# Altium footprint library KeyboardSwitches.PcbLib: 43 footprints (part 2 of 3)
Each footprint in its own frame and in the unit in brackets; x right, y up, seen from the top. Pads: shape width x height; smd on the part's side, far side on the other; paste and mask are expansions set on the pad; w line width, h text height; cw(c..) or ccw(c..) is an arc to the next point about the centre after c.
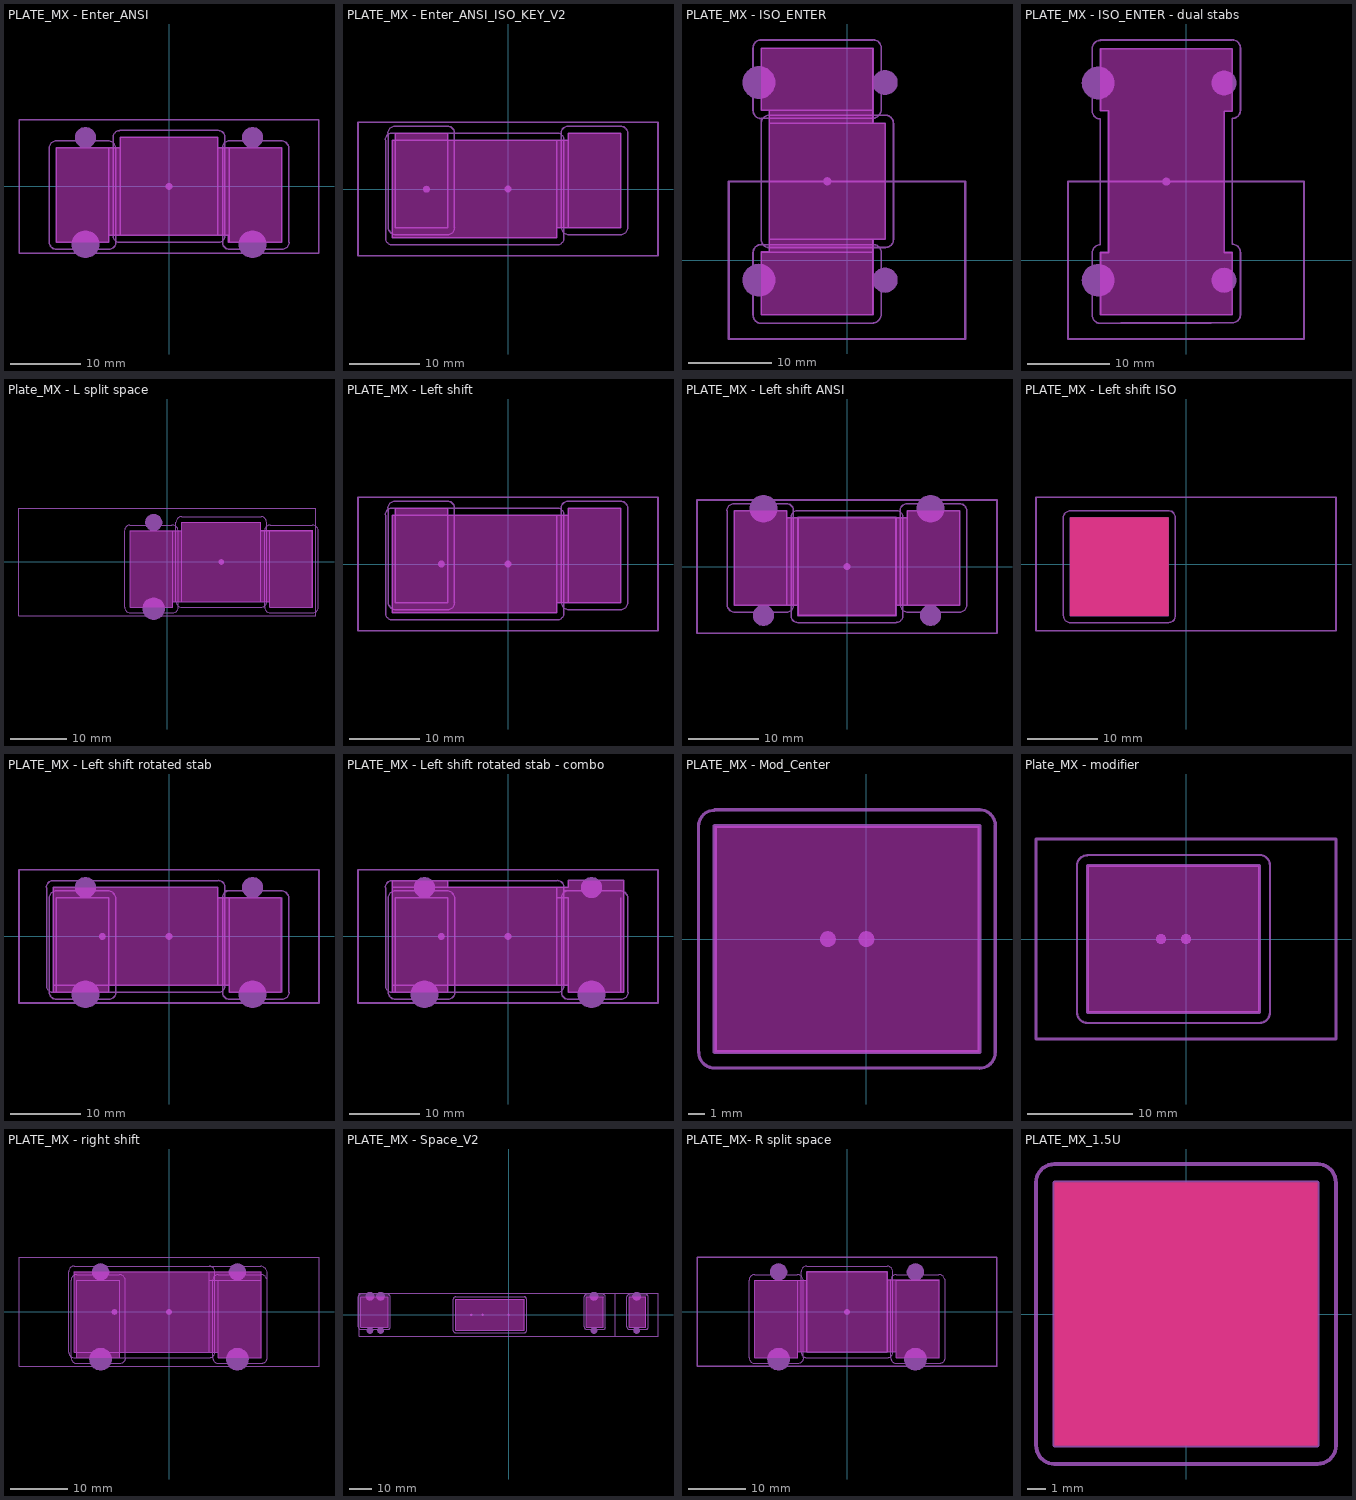
[diagram p1: the footprints below, top view; thin cyan lines are the x and y axes]

## PLATE_MX - Enter_ANSI [mil]
pads (7):
  round 157.01 on Mech13: ""(-470,-325) ""(470,-325)
  round 120 on Mech13: ""(-470,275) ""(470,275)
  round 39.37 on Mech13: ""(0,0) ""(0,0) ""(0,0)
Top Solder:
  drawing of 3 lines, arcs and shapes, not listed
Bottom Solder:
  drawing of 3 lines, arcs and shapes, not listed
Keep-Out Layer:
  board cut-out: -633.86,-313.78 -633.86,217.71 -275.59,217.72 -275.59,275.59 275.59,275.59 275.59,217.71 633.86,217.71 633.86,-313.77 333.68,-313.77 333.69,-275.58 -337.64,-275.58 -337.64,-313.78
Mechanical 13:
  lines w7.87: -673.23,218.26 cw(c-634.87,218.26) -634.87,256.61 -343.13,256.61 cw(c-343.13,212.85) -299.37,212.85 -299.37,-313.22 ; -672.76,217.79 -672.76,-314.8 ccw(c-634.4,-314.8) -634.4,-353.15 -337.09,-353.15 ; -337.05,-275.59 -275.59,-275.59 ; -336.62,-352.68 ccw(c-336.62,-314.32) -298.27,-314.32 ; -314.96,-276.13 -314.96,276.13 cw(c-276.61,276.13) -276.61,314.49 ; -314.49,-276.61 ccw(c-276.13,-276.61) -276.13,-314.96 276.13,-314.96 ; -277.72,217.72 -337.64,217.72 ; -276.13,314.96 276.13,314.96 cw(c276.13,276.61) 314.49,276.61 ; 276.61,-314.49 ccw(c276.61,-276.13) 314.96,-276.13 314.96,276.13 ; 277.87,217.72 337.64,217.72 ; 300.63,218.26 cw(c338.98,218.26) 338.98,256.61 630.72,256.61 cw(c630.72,212.85) 674.49,212.85 674.49,-313.22 ; 301.1,217.79 301.1,-314.8 ccw(c339.46,-314.8) 339.46,-353.15 636.76,-353.15 ; 332.05,-275.59 275.59,-275.59 ; 637.24,-352.68 ccw(c637.24,-314.32) 675.59,-314.32 ; -337.64,217.72 -337.64,-313.78 -633.86,-313.78 -633.86,217.72 -337.64,217.72 ; -275.59,-275.59 275.59,-275.59 ; -275.59,-275.59 -275.59,275.59 275.59,275.59 275.59,-275.59 ; 337.64,217.72 633.86,217.72 633.86,-313.78 337.64,-313.78 337.64,217.72 ; -843.75,-375 843.75,-375 843.75,375 -843.75,375 -843.75,-375
Mechanical 15:
  lines w7.87: -275.59,217.71 -633.86,217.71 -633.86,-313.77 -633.86,-313.78 -338.78,-313.78 -337.64,-312.64 -337.64,-275.58 333.69,-275.58 333.69,-313.77 ; -275.59,217.71 -275.59,217.72 ; -275.59,217.72 -275.59,275.59 ; -275.59,275.59 -275.59,275.59 ; -275.59,275.59 275.59,275.59 ; 275.59,275.59 275.59,275.59 ; 275.59,275.59 275.59,217.72 633.86,217.71 ; 333.68,-313.77 633.85,-313.77 ; 333.68,-313.77 333.69,-313.77 ; 633.86,-313.77 633.86,217.71 ; 633.85,-313.77 633.86,-313.77 ; 633.86,217.71 633.86,217.71

## PLATE_MX - Enter_ANSI_ISO_KEY_V2 [mm]
pads (4):
  round 1 on Mech13: ""(-11.652,-0.032) ""(-11.652,-0.032) ""(0,0) ""(0,0)
Top Solder:
  drawing of 3 lines, arcs and shapes, not listed
Bottom Solder:
  drawing of 3 lines, arcs and shapes, not listed
Keep-Out Layer:
  board cut-out: 16.1,7.97 16.1,-5.53 7,-5.53 7,-7 -16.525,-7 -16.525,7 -16.1,7 -16.1,7.97 -8.576,7.97 -8.576,7 6.614,7 8.576,7 8.576,7.97
Mechanical 13:
  lines w0.2: -17.525,7.014 cw(c-16.551,7.014) -16.551,7.988 7.002,7.988 ; -17.498,6.987 -17.498,-7.026 ccw(c-16.524,-7.026) -16.524,-8 ; -17.16,7.984 cw(c-16.186,7.984) -16.186,8.958 ; -17.132,7.956 -17.132,-5.406 ccw(c-16.02,-5.406) -16.02,-6.518 -8.61,-6.518 ccw(c-8.61,-5.544) -7.636,-5.544 ; -16.512,-7.988 7.026,-7.988 ccw(c7.026,-7.014) 8,-7.014 ; -16.174,8.97 -8.622,8.97 cw(c-8.622,7.996) -7.648,7.996 -7.648,-5.532 ; 7,6.985 8.576,6.985 ; 7.014,8 cw(c7.014,7.026) 7.988,7.026 7.988,-7.002 ; 7.058,-5.53 8.576,-5.53 ; 7.576,7.984 cw(c8.55,7.984) 8.55,8.958 ; 7.604,7.956 7.604,-5.406 ccw(c8.716,-5.406) 8.716,-6.518 16.126,-6.518 ccw(c16.126,-5.544) 17.1,-5.544 ; 8.562,8.97 16.114,8.97 cw(c16.114,7.996) 17.088,7.996 17.088,-5.532 ; -16.1,7.97 -8.576,7.97 ; -16.1,7.97 -16.1,-5.53 -8.576,-5.53 -8.576,7.97 ; -16.1,7.97 -8.576,7.97 ; 8.576,-5.53 16.1,-5.53 16.1,7.97 8.576,7.97 8.576,-5.53 ; -16.525,-7 7,-7 7,7 -16.525,7 -16.525,-7
  lines w0.254: -21.431,-9.525 21.431,-9.525 21.431,9.525 -21.431,9.525 -21.431,-9.525
  text ".Designator" at 7.85,1.8 h0.7
Mechanical 15:
  lines w0.2: -16.525,7 -16.525,-7 7,-7 7,-5.53 16.1,-5.53 16.1,7.97 8.576,7.97 8.576,7 -8.576,7 -8.576,7.97 ; -16.525,7 -16.525,7 ; -16.525,7 -16.1,7 ; -16.1,7 -16.1,7 ; -16.1,7 -16.1,7.97 -8.576,7.97 ; -8.576,7.97 -8.576,7.97

## PLATE_MX - ISO_ENTER [mil]
pads (5):
  round 157.01 on Mech13: ""(-418.75,-95) ""(-418.75,845)
  round 39.37 on Mech13: ""(-93.75,375)
  round 120 on Mech13: ""(181.25,-95) ""(181.25,845)
Top Solder:
  drawing of 3 lines, arcs and shapes, not listed
Bottom Solder:
  drawing of 3 lines, arcs and shapes, not listed
Keep-Out Layer:
  board cut-out: -407.53,1008.86 123.97,1008.86 123.97,650.99 181.84,650.99 181.84,99.41 123.97,99.41 123.97,-258.86 -407.53,-258.86 -407.53,39 -369.34,39 -369.34,712.64 -407.52,712.64
Mechanical 13:
  lines w7.87: -446.9,-261.76 -446.9,35.54 cw(c-408.55,35.54) -408.55,73.9 124.04,73.9 ; -446.9,712.09 -446.9,1009.4 cw(c-408.55,1009.4) -408.55,1047.76 124.04,1047.76 ; -446.43,-262.24 ccw(c-408.07,-262.24) -408.07,-300.59 ; -446.43,711.62 ccw(c-408.07,711.62) -408.07,673.27 ; -408.71,98.87 -408.71,651.13 cw(c-370.36,651.13) -370.36,689.49 ; -408.24,98.39 ccw(c-369.88,98.39) -369.88,60.04 182.38,60.04 ; -406.97,-299.49 119.1,-299.49 ccw(c119.1,-255.72) 162.86,-255.72 162.86,36.02 ccw(c124.51,36.02) 124.51,74.37 ; -406.97,674.37 119.1,674.37 ccw(c119.1,718.13) 162.86,718.13 162.86,1009.87 ccw(c124.51,1009.87) 124.51,1048.23 ; -369.88,689.96 182.38,689.96 cw(c182.38,651.61) 220.74,651.61 ; -369.34,42.95 -369.34,99.41 ; -369.34,712.05 -369.34,650.59 ; 123.97,97.13 123.97,37.36 ; 123.97,652.72 123.97,712.64 ; 182.86,60.51 ccw(c182.86,98.87) 221.21,98.87 221.21,651.13 ; -369.34,99.41 -369.34,650.59 ; -369.34,99.41 181.84,99.41 181.84,650.59 -369.34,650.59 ; 123.97,37.36 123.97,-258.86 -407.53,-258.86 -407.53,37.36 123.97,37.36 ; 123.97,712.64 -407.53,712.64 -407.53,1008.86 123.97,1008.86 123.97,712.64
  lines w10: -562.5,-375 562.5,-375 562.5,375 -562.5,375 -562.5,-375
  text ".Designator" at -36.91,882.87 h27.56
Mechanical 15:
  lines w7.87: -407.52,712.64 -407.52,1008.85 -407.53,1008.86 123.97,1008.86 123.97,651 ; -407.52,712.64 -407.52,712.64 ; -407.52,712.64 -369.34,712.64 ; -369.34,39 -369.34,712.64 ; -369.34,39 -369.34,39 ; -369.34,39 -407.53,39 -407.53,-258.86 123.97,-258.86 123.97,99.41 ; -369.34,712.64 -369.34,712.64 ; 123.97,99.41 123.97,99.41 ; 123.97,99.41 181.84,99.41 181.84,650.99 123.97,650.99 ; 123.97,650.99 123.97,651

## PLATE_MX - ISO_ENTER - dual stabs [mil]
pads (5):
  round 157.01 on Mech13: ""(-418.75,-95) ""(-418.75,845)
  round 39.37 on Mech13: ""(-93.75,375)
  round 120 on Mech13: ""(181.25,-95) ""(181.25,845)
Top Solder:
  region: -450.35,-263.68 -450.48,-263.46 -450.66,-263 -450.79,-262.51 -450.85,-262.01 -450.85,-261.76 -450.85,35.54 -450.85,39.46 -449.41,47.16 -446.58,54.47 -442.46,61.13 -437.19,66.92 -430.94,71.65 -423.93,75.15 -416.4,77.3 -412.5,77.67 -412.5,97.73 -412.54,97.87 -412.6,98.15 -412.64,98.44 -412.66,98.72 -412.66,98.87 -412.66,669.57 -416.43,669.98 -423.69,672.12 -430.45,675.52 -436.51,680.07 -441.66,685.62 -445.74,691.99 -448.63,698.99 -450.23,706.39 -450.35,710.18 -450.48,710.4 -450.66,710.86 -450.79,711.35 -450.85,711.84 -450.85,712.09 -450.85,1009.4 -450.85,1013.36 -449.39,1021.13 -446.5,1028.5 -442.31,1035.2 -436.94,1041.01 -430.59,1045.73 -423.48,1049.18 -415.84,1051.26 -411.9,1051.58 -411.63,1052 -410.9,1052.7 -410.02,1053.19 -409.05,1053.44 -408.55,1053.44 217.83,1053.44 218.11,1053.7 218.74,1054.11 219.45,1054.4 220.19,1054.54 220.57,1054.54 224.65,1054.54 232.65,1052.99 240.21,1049.93 247.04,1045.49 252.9,1039.83 257.58,1033.15 260.89,1025.7 262.72,1017.76 262.85,1013.68 262.98,1013.46 263.16,1013 263.29,1012.51 263.35,1012.01 263.35,1011.76 263.35,714.46 263.35,710.55 261.92,702.87 259.11,695.58 255.01,688.93 249.76,683.14 243.54,678.41 236.56,674.9 229.05,672.73 225.16,672.35 225.16,80.43 228.93,80.02 236.19,77.88 242.95,74.48 249.01,69.93 254.16,64.38 258.24,58.01 261.13,51.01 262.73,43.61 262.85,39.82 262.98,39.6 263.16,39.14 263.29,38.65 263.35,38.16 263.35,37.91 263.35,-259.4 263.35,-263.57 261.73,-271.74 258.54,-279.44 253.91,-286.37 248.01,-292.26 241.08,-296.89 233.39,-300.08 225.21,-301.71 221.05,-301.71 122.37,-301.71 122.1,-302.11 121.38,-302.75 120.52,-303.21 119.58,-303.44 119.1,-303.44 -405.33,-303.44 -405.61,-303.7 -406.24,-304.11 -406.95,-304.4 -407.69,-304.54 -408.07,-304.54 -412.15,-304.54 -420.15,-302.99 -427.71,-299.93 -434.54,-295.49 -440.4,-289.83 -445.08,-283.15 -448.39,-275.7 -450.22,-267.76
Bottom Solder:
  region: -450.35,-263.68 -450.48,-263.46 -450.66,-263 -450.79,-262.51 -450.85,-262.01 -450.85,-261.76 -450.85,35.54 -450.85,39.46 -449.41,47.16 -446.58,54.47 -442.46,61.13 -437.19,66.92 -430.94,71.65 -423.93,75.15 -416.4,77.3 -412.5,77.67 -412.5,97.73 -412.54,97.87 -412.6,98.15 -412.64,98.44 -412.66,98.72 -412.66,98.87 -412.66,669.57 -416.43,669.98 -423.69,672.12 -430.45,675.52 -436.51,680.07 -441.66,685.62 -445.74,691.99 -448.63,698.99 -450.23,706.39 -450.35,710.18 -450.48,710.4 -450.66,710.86 -450.79,711.35 -450.85,711.84 -450.85,712.09 -450.85,1009.4 -450.85,1013.36 -449.39,1021.13 -446.5,1028.5 -442.31,1035.2 -436.94,1041.01 -430.59,1045.73 -423.48,1049.18 -415.84,1051.26 -411.9,1051.58 -411.63,1052 -410.9,1052.7 -410.02,1053.19 -409.05,1053.44 -408.55,1053.44 217.83,1053.44 218.11,1053.7 218.74,1054.11 219.45,1054.4 220.19,1054.54 220.57,1054.54 224.65,1054.54 232.65,1052.99 240.21,1049.93 247.04,1045.49 252.9,1039.83 257.58,1033.15 260.89,1025.7 262.72,1017.76 262.85,1013.68 262.98,1013.46 263.16,1013 263.29,1012.51 263.35,1012.01 263.35,1011.76 263.35,714.46 263.35,710.55 261.92,702.87 259.11,695.58 255.01,688.93 249.76,683.14 243.54,678.41 236.56,674.9 229.05,672.73 225.16,672.35 225.16,80.43 228.93,80.02 236.19,77.88 242.95,74.48 249.01,69.93 254.16,64.38 258.24,58.01 261.13,51.01 262.73,43.61 262.85,39.82 262.98,39.6 263.16,39.14 263.29,38.65 263.35,38.16 263.35,37.91 263.35,-259.4 263.35,-263.57 261.73,-271.74 258.54,-279.44 253.91,-286.37 248.01,-292.26 241.08,-296.89 233.39,-300.08 225.21,-301.71 221.05,-301.71 122.37,-301.71 122.1,-302.11 121.38,-302.75 120.52,-303.21 119.58,-303.44 119.1,-303.44 -405.33,-303.44 -405.61,-303.7 -406.24,-304.11 -406.95,-304.4 -407.69,-304.54 -408.07,-304.54 -412.15,-304.54 -420.15,-302.99 -427.71,-299.93 -434.54,-295.49 -440.4,-289.83 -445.08,-283.15 -448.39,-275.7 -450.22,-267.76
Keep-Out Layer:
  board cut-out: -407.53,-258.86 -407.53,39 -369.34,39 -369.34,712.64 -407.52,712.64 -407.52,1008.85 -407.53,1008.86 220.03,1008.86 220.03,711 181.84,711 181.84,37.36 220.02,37.36 220.02,-258.85 220.03,-258.86
Mechanical 13:
  lines w7.87: -446.9,-261.76 -446.9,35.54 cw(c-408.55,35.54) -408.55,73.9 -408.55,139.83 ; -446.9,712.09 -446.9,1009.4 cw(c-408.55,1009.4) -408.55,1047.76 ; -446.43,-262.24 ccw(c-408.07,-262.24) -408.07,-300.59 ; -446.43,711.62 ccw(c-408.07,711.62) -408.07,673.27 ; -408.71,672.63 -408.71,651.13 ; -408.55,1049.49 219.47,1049.49 ; -406.97,-299.49 119.1,-299.49 ; -369.93,712.64 -407.53,712.64 -407.53,1008.86 123.97,1008.86 ; -369.34,712.05 -369.34,650.59 ; -311.54,-297.76 221.05,-297.76 ccw(c221.05,-259.4) 259.4,-259.4 259.4,37.91 ; -311.47,-258.86 220.03,-258.86 220.03,37.36 ; -311.47,1008.86 220.03,1008.86 220.03,712.64 ; 123.97,-258.86 -407.53,-258.86 -407.53,37.36 -369.34,37.36 -369.34,99.41 ; 181.84,37.36 220.02,37.36 ; 181.84,37.95 181.84,99.41 ; 220.03,711 181.84,711 181.84,650.59 ; 220.57,76.73 cw(c220.57,38.38) 258.93,38.38 ; 220.57,1050.59 cw(c220.57,1012.24) 258.93,1012.24 ; 221.05,676.1 ccw(c221.05,714.46) 259.4,714.46 259.4,1011.76 ; 221.21,77.37 221.21,98.87 ; 221.21,675.94 221.21,651.13 ; -408.71,651.13 -408.71,98.87 -408.71,651.13 ; -369.34,99.41 -369.34,650.59 ; -369.34,99.41 -369.34,650.59 ; 181.84,99.41 181.84,650.59 ; 181.84,99.41 181.84,650.59 ; 221.21,98.87 221.21,651.13 ; 221.21,98.87 221.21,651.13
  lines w10: -562.5,-375 -562.5,375 562.5,375 562.5,-375 -562.5,-375
  text ".Designator" at -150.59,-132.87 h27.56
  text ".Designator" at -36.91,882.87 h27.56
Mechanical 15:
  lines w7.87: -369.34,99.01 -369.34,650.59 ; 181.84,99.41 181.84,650.99 ; -407.52,712.64 -369.34,712.64 ; -407.52,712.64 -407.52,712.64 ; -407.52,712.64 -407.52,1008.85 -407.53,1008.86 220.03,1008.86 220.03,711 181.84,711 ; -369.34,39 -407.53,39 -407.53,-258.86 220.03,-258.86 220.02,-258.85 220.02,37.36 ; -369.34,39 -369.34,39 ; -369.34,39 -369.34,712.64 ; -369.34,712.64 -369.34,712.64 ; 181.84,37.36 220.02,37.36 ; 181.84,37.36 181.84,37.36 ; 181.84,37.36 181.84,711 ; 181.84,711 181.84,711 ; 220.02,37.36 220.02,37.36

## Plate_MX - L split space [mm]
pads (5):
  round 3.988 on Mech13: ""(-2.413,-8.255)
  round 3.048 on Mech13: ""(-2.413,6.985)
  round 1 on Mech13: ""(9.525,0) ""(9.525,0) ""(9.525,0)
Top Solder:
  drawing of 3 lines, arcs and shapes, not listed
Bottom Solder:
  drawing of 3 lines, arcs and shapes, not listed
Keep-Out Layer:
  board cut-out: -6.575,-7.97 0.949,-7.97 0.949,-6.985 18.101,-6.985 18.101,-7.97 25.654,-7.97 25.654,5.63 16.525,5.63 16.525,7 2.525,7 2.525,5.53 -6.575,5.53
Mechanical 13:
  lines w0.2: -7.575,5.544 cw(c-6.601,5.544) -6.601,6.518 0.809,6.518 cw(c0.809,5.406) 1.921,5.406 1.921,-7.956 ; -7.563,5.532 -7.563,-7.996 ccw(c-6.589,-7.996) -6.589,-8.97 0.963,-8.97 ; 0.964,-7 2.525,-7 ; 0.975,-8.958 ccw(c0.975,-7.984) 1.949,-7.984 ; 1.525,-7.014 1.525,7.014 cw(c2.499,7.014) 2.499,7.988 ; 1.537,-7.026 ccw(c2.511,-7.026) 2.511,-8 16.539,-8 ; 2.467,5.53 0.949,5.53 ; 2.511,8 16.539,8 cw(c16.539,7.026) 17.513,7.026 ; 16.129,-7 18.086,-7 ; 16.551,-7.988 ccw(c16.551,-7.014) 17.525,-7.014 17.525,7.014 ; 16.594,5.53 18.101,5.53 ; 17.161,5.544 cw(c18.135,5.544) 18.135,6.518 25.545,6.518 cw(c25.545,5.406) 26.657,5.406 26.657,-7.956 ; 17.173,5.532 17.173,-7.996 ccw(c18.147,-7.996) 18.147,-8.97 25.699,-8.97 ; 25.711,-8.958 ccw(c25.711,-7.984) 26.685,-7.984 ; 0.949,5.53 0.949,-7.97 -6.575,-7.97 -6.575,5.53 0.949,5.53 ; 2.525,-7 2.525,7 16.525,7 16.525,-7 2.525,-7 ; 18.101,5.53 25.625,5.53 25.625,-7.97 18.101,-7.97 18.101,5.53 ; -26.194,-9.525 26.194,-9.525 26.194,9.525 -26.194,9.525 -26.194,-9.525
Mechanical 15:
  lines w0.2: -6.575,-7.97 0.949,-7.97 ; -6.575,-7.97 -6.575,-7.97 ; -6.575,-7.97 -6.575,5.53 ; -6.575,5.53 2.525,5.53 ; -6.575,5.53 -6.575,5.53 ; 0.949,-7.97 0.949,-6.985 18.101,-6.985 18.101,-7.97 ; 0.949,-7.97 0.949,-7.97 ; 2.525,5.53 2.525,5.53 ; 2.525,5.53 2.525,7 ; 2.525,7 2.525,7 ; 2.525,7 16.525,7 ; 16.525,5.63 16.525,7 ; 16.525,5.63 16.525,5.63 ; 16.525,5.63 25.654,5.63 ; 16.525,7 16.525,7 ; 18.101,-7.97 25.654,-7.97 25.654,-7.97 25.654,5.63 ; 18.101,-7.97 18.101,-7.97 ; 25.654,5.63 25.654,5.63

## PLATE_MX - Left shift [mm]
pads (2):
  round 1 on Mech13: ""(-9.525,0) ""(0,0)
Top Solder:
  drawing of 3 lines, arcs and shapes, not listed
Bottom Solder:
  drawing of 3 lines, arcs and shapes, not listed
Keep-Out Layer:
  board cut-out: 16.1,7.97 16.1,-5.53 7,-5.53 7,-7 -16.525,-7 -16.525,7 -16.1,7 -16.1,7.97 -8.576,7.97 -8.576,6.999 7,7 8.576,7 8.576,7.97
Mechanical 13:
  lines w0.2: -17.525,7.014 cw(c-16.551,7.014) -16.551,7.988 7.002,7.988 ; -17.498,6.987 -17.498,-7.026 ccw(c-16.524,-7.026) -16.524,-8 ; -17.16,7.984 cw(c-16.186,7.984) -16.186,8.958 ; -17.132,7.956 -17.132,-5.406 ccw(c-16.02,-5.406) -16.02,-6.518 -8.61,-6.518 ccw(c-8.61,-5.544) -7.636,-5.544 ; -16.525,6.985 -16.51,7 ; -16.512,-7.988 7.026,-7.988 ccw(c7.026,-7.014) 8,-7.014 ; -16.174,8.97 -8.622,8.97 cw(c-8.622,7.996) -7.648,7.996 -7.648,-5.532 ; 7,-5.53 7,-5.53 7,-7 ; 7,6.985 8.576,6.985 8.562,6.999 ; 7.014,8 cw(c7.014,7.026) 7.988,7.026 7.988,-7.002 ; 7.058,-5.53 8.576,-5.53 ; 7.576,7.984 cw(c8.55,7.984) 8.55,8.958 ; 7.604,7.956 7.604,-5.406 ccw(c8.716,-5.406) 8.716,-6.518 16.126,-6.518 ccw(c16.126,-5.544) 17.1,-5.544 ; 8.562,8.97 16.114,8.97 cw(c16.114,7.996) 17.088,7.996 17.088,-5.532 ; -16.1,7.97 -8.576,7.97 ; -16.1,7.97 -16.1,-5.53 -8.576,-5.53 -8.576,7.97 ; -16.1,7.97 -8.576,7.97 ; -16.1,7.97 -16.1,7.97 ; 7,-7 -16.525,-7 -16.525,7 7,7 7,-7 ; 7,-7 7,-7 ; 8.576,-5.53 16.1,-5.53 ; 8.576,-5.53 8.576,7.97 16.1,7.97 16.1,-5.53 ; 16.1,-5.53 16.1,-5.53 ; -16.1,7 -16.1,7 ; -8.576,6.999 -8.576,6.999
  lines w0.254: -21.431,-9.525 -21.431,9.525 21.431,9.525 21.431,-9.525 -21.431,-9.525
  text ".Designator" at 7.85,1.8 h0.7
  text ".Designator" at 1.778,3.556 h0.7
Mechanical 15:
  lines w0.2: -16.525,6.985 -16.525,-7 6.985,-7 ; -16.51,7 -16.1,7 -16.1,7.97 -8.576,7.97 -8.576,6.999 8.562,6.999 ; 7,-7 7,-5.53 16.1,-5.53 16.1,7.97 8.576,7.97 8.576,6.985

## PLATE_MX - Left shift ANSI [mil]
pads (5):
  round 120 on Mech13: ""(-470,-275) ""(470,-275)
  round 157.01 on Mech13: ""(-470,325) ""(470,325)
  round 39.37 on Mech13: ""(0,0)
Top Solder:
  drawing of 3 lines, arcs and shapes, not listed
Bottom Solder:
  drawing of 3 lines, arcs and shapes, not listed
Keep-Out Layer:
  board cut-out: 633.86,313.78 337.64,313.78 337.64,275 -337.64,275 -337.64,313.78 -635,313.78 -635,-217.73 -275.59,-217.73 -275.59,-275.59 275.59,-275.59 275.59,-217.72 633.86,-217.72
Mechanical 13:
  lines w7.87: -675.59,314.32 cw(c-637.24,314.32) -637.24,352.68 ; -674.49,313.22 -674.49,-212.85 ccw(c-630.72,-212.85) -630.72,-256.61 -338.98,-256.61 ccw(c-338.98,-218.26) -300.63,-218.26 ; -636.76,353.15 -339.46,353.15 cw(c-339.46,314.8) -301.1,314.8 -301.1,-217.79 ; -314.96,-276.13 -314.96,276.13 cw(c-276.61,276.13) -276.61,314.49 ; -314.49,-276.61 ccw(c-276.13,-276.61) -276.13,-314.96 276.13,-314.96 ; -276.13,314.96 276.13,314.96 cw(c276.13,276.61) 314.49,276.61 ; 276.61,-314.49 ccw(c276.61,-276.13) 314.96,-276.13 314.96,276.13 ; 298.27,314.32 cw(c336.62,314.32) 336.62,352.68 ; 299.37,313.22 299.37,-212.85 ccw(c343.13,-212.85) 343.13,-256.61 634.87,-256.61 ccw(c634.87,-218.26) 673.23,-218.26 ; 337.09,353.15 634.4,353.15 cw(c634.4,314.8) 672.76,314.8 672.76,-217.79 ; -633.86,-217.72 -633.86,313.78 -337.64,313.78 -337.64,-217.72 -633.86,-217.72 ; 337.64,-217.72 633.86,-217.72 633.86,313.78 337.64,313.78 337.64,-217.72
  lines w10: -843.75,-375 843.75,-375 843.75,375 -843.75,375 -843.75,-375 ; -275.59,-275.59 275.59,-275.59 275.59,275.59 -275.59,275.59 -275.59,-275.59
Mechanical 15:
  lines w7.87: -635,-217.73 -275.59,-217.73 ; -635,-217.73 -635,-217.73 ; -635,-217.73 -635,313.77 -635,313.78 -337.64,313.78 ; -337.64,275 -337.64,313.78 ; -337.64,275 -337.64,275 ; -337.64,275 337.64,275 337.64,313.78 ; -337.64,313.78 -337.64,313.78 ; -275.59,-275.59 275.59,-275.59 ; -275.59,-275.59 -275.59,-275.59 ; -275.59,-275.59 -275.59,-217.73 ; -275.59,-217.73 -275.59,-217.73 ; 275.59,-275.59 275.59,-217.72 ; 275.59,-275.59 275.59,-275.59 ; 275.59,-217.72 633.86,-217.72 633.86,-206.14 ; 275.59,-217.72 275.59,-217.72 ; 337.64,313.78 337.64,313.78 ; 337.64,313.78 633.86,313.78 ; 633.86,-206.14 633.86,313.78 ; 633.86,-206.14 633.86,-206.14 ; 633.86,313.78 633.86,313.78

## PLATE_MX - Left shift ISO [mm]
pads (2):
  round 1 on Mech13: ""(-9.525,-0.381) ""(-9.525,-0.381)
Top Layer:
  pour cut-out: -16.525,-7.381 -2.525,-7.381 -2.525,6.619 -16.525,6.619
Top Solder:
  region: -17.513,-7.407 -17.513,-7.503 -17.476,-7.691 -17.402,-7.868 -17.296,-8.028 -17.16,-8.164 -17,-8.27 -16.823,-8.344 -16.635,-8.381 -16.539,-8.381 -2.511,-8.381 -2.499,-8.369 -2.403,-8.369 -2.215,-8.332 -2.038,-8.258 -1.878,-8.152 -1.742,-8.016 -1.636,-7.856 -1.562,-7.679 -1.525,-7.491 -1.525,-7.395 -1.525,6.633 -1.537,6.645 -1.537,6.741 -1.574,6.929 -1.648,7.106 -1.754,7.266 -1.89,7.402 -2.05,7.508 -2.227,7.582 -2.415,7.619 -2.511,7.619 -16.539,7.619 -16.551,7.607 -16.647,7.607 -16.835,7.57 -17.012,7.496 -17.172,7.39 -17.308,7.254 -17.414,7.094 -17.488,6.917 -17.525,6.729 -17.525,6.633
Bottom Solder:
  region: -17.513,-7.407 -17.513,-7.503 -17.476,-7.691 -17.402,-7.868 -17.296,-8.028 -17.16,-8.164 -17,-8.27 -16.823,-8.344 -16.635,-8.381 -16.539,-8.381 -2.511,-8.381 -2.499,-8.369 -2.403,-8.369 -2.215,-8.332 -2.038,-8.258 -1.878,-8.152 -1.742,-8.016 -1.636,-7.856 -1.562,-7.679 -1.525,-7.491 -1.525,-7.395 -1.525,6.633 -1.537,6.645 -1.537,6.741 -1.574,6.929 -1.648,7.106 -1.754,7.266 -1.89,7.402 -2.05,7.508 -2.227,7.582 -2.415,7.619 -2.511,7.619 -16.539,7.619 -16.551,7.607 -16.647,7.607 -16.835,7.57 -17.012,7.496 -17.172,7.39 -17.308,7.254 -17.414,7.094 -17.488,6.917 -17.525,6.729 -17.525,6.633
Keep-Out Layer:
  board cut-out: -16.525,-7.381 -2.525,-7.381 -2.525,6.619 -16.525,6.619
Mechanical 13:
  lines w0.2: -17.525,-7.395 -17.525,6.633 cw(c-16.551,6.633) -16.551,7.607 ; -17.513,-7.407 ccw(c-16.539,-7.407) -16.539,-8.381 -2.511,-8.381 ; -16.539,7.619 -2.511,7.619 cw(c-2.511,6.645) -1.537,6.645 ; -2.499,-8.369 ccw(c-2.499,-7.395) -1.525,-7.395 -1.525,6.633
  lines w0.254: -21.431,-9.525 21.431,-9.525 21.431,9.525 -21.431,9.525 -21.431,-9.525 ; -16.525,-7.381 -16.525,6.619 -2.525,6.619 -2.525,-7.381 -16.525,-7.381
  text ".Designator" at 1.778,3.556 h0.7
Mechanical 15:
  lines w0.2: -16.525,6.619 -2.525,6.619 -2.525,-7.381 -16.525,-7.381 -16.525,6.604 -16.51,6.619

## PLATE_MX - Left shift rotated stab [mil]
pads (6):
  round 157.01 on Mech13: ""(-470,-325) ""(470,-325)
  round 120 on Mech13: ""(-470,275) ""(470,275)
  round 39.37 on Mech13: ""(-375,0) ""(0,0)
Top Solder:
  region: -634.4,-357.1 -337.09,-357.1 -336.84,-357.1 -336.35,-357.04 -335.86,-356.91 -335.4,-356.73 -335.18,-356.6 -331.36,-356.47 -323.91,-354.85 -316.86,-351.92 -310.45,-347.78 -304.89,-342.56 -300.35,-336.42 -296.98,-329.58 -294.89,-322.24 -294.52,-318.44 253.06,-318.44 253.28,-318.57 253.75,-318.76 254.24,-318.89 254.75,-318.95 255,-318.95 297.35,-318.95 297.74,-322.84 299.91,-330.34 303.43,-337.31 308.16,-343.52 313.94,-348.77 320.59,-352.86 327.88,-355.67 335.55,-357.1 339.46,-357.1 636.76,-357.1 637.01,-357.1 637.51,-357.04 638,-356.91 638.46,-356.73 638.68,-356.6 642.76,-356.47 650.7,-354.64 658.15,-351.33 664.83,-346.65 670.49,-340.79 674.93,-333.96 677.99,-326.4 679.54,-318.4 679.54,-314.32 679.54,-313.94 679.4,-313.2 679.11,-312.49 678.7,-311.86 678.44,-311.58 678.44,212.85 678.44,217.55 676.61,226.77 673.01,235.45 667.79,243.27 661.14,249.91 653.33,255.14 644.64,258.73 635.42,260.57 630.72,260.57 318.44,260.57 318.44,276.61 318.44,280.77 316.81,288.95 313.63,296.65 309,303.57 303.1,309.47 296.17,314.1 288.47,317.29 280.3,318.91 276.13,318.91 275.89,318.91 275.41,318.85 274.93,318.73 274.48,318.56 274.26,318.44 -651.61,318.44 -655.77,318.44 -663.95,316.81 -671.65,313.63 -678.58,309 -684.47,303.1 -689.1,296.17 -692.29,288.47 -693.91,280.3 -693.91,276.13 -693.91,275.76 -693.77,275.03 -693.5,274.34 -693.1,273.71 -692.85,273.44 -692.85,-276.61 -692.85,-281.41 -690.7,-290.77 -686.5,-299.4 -680.48,-306.88 -676.71,-309.85 -676.71,-314.8 -676.71,-318.96 -675.08,-327.14 -671.89,-334.83 -667.26,-341.76 -661.37,-347.66 -654.44,-352.29 -646.74,-355.48 -638.57,-357.1
Bottom Solder:
  region: -634.4,-357.1 -337.09,-357.1 -336.84,-357.1 -336.35,-357.04 -335.86,-356.91 -335.4,-356.73 -335.18,-356.6 -331.36,-356.47 -323.91,-354.85 -316.86,-351.92 -310.45,-347.78 -304.89,-342.56 -300.35,-336.42 -296.98,-329.58 -294.89,-322.24 -294.52,-318.44 253.06,-318.44 253.28,-318.57 253.75,-318.76 254.24,-318.89 254.75,-318.95 255,-318.95 297.35,-318.95 297.74,-322.84 299.91,-330.34 303.43,-337.31 308.16,-343.52 313.94,-348.77 320.59,-352.86 327.88,-355.67 335.55,-357.1 339.46,-357.1 636.76,-357.1 637.01,-357.1 637.51,-357.04 638,-356.91 638.46,-356.73 638.68,-356.6 642.76,-356.47 650.7,-354.64 658.15,-351.33 664.83,-346.65 670.49,-340.79 674.93,-333.96 677.99,-326.4 679.54,-318.4 679.54,-314.32 679.54,-313.94 679.4,-313.2 679.11,-312.49 678.7,-311.86 678.44,-311.58 678.44,212.85 678.44,217.55 676.61,226.77 673.01,235.45 667.79,243.27 661.14,249.91 653.33,255.14 644.64,258.73 635.42,260.57 630.72,260.57 318.44,260.57 318.44,276.61 318.44,280.77 316.81,288.95 313.63,296.65 309,303.57 303.1,309.47 296.17,314.1 288.47,317.29 280.3,318.91 276.13,318.91 275.89,318.91 275.41,318.85 274.93,318.73 274.48,318.56 274.26,318.44 -651.61,318.44 -655.77,318.44 -663.95,316.81 -671.65,313.63 -678.58,309 -684.47,303.1 -689.1,296.17 -692.29,288.47 -693.91,280.3 -693.91,276.13 -693.91,275.76 -693.77,275.03 -693.5,274.34 -693.1,273.71 -692.85,273.44 -692.85,-276.61 -692.85,-281.41 -690.7,-290.77 -686.5,-299.4 -680.48,-306.88 -676.71,-309.85 -676.71,-314.8 -676.71,-318.96 -675.08,-327.14 -671.89,-334.83 -667.26,-341.76 -661.37,-347.66 -654.44,-352.29 -646.74,-355.48 -638.57,-357.1
Keep-Out Layer:
  board cut-out: -650.59,-314.96 -337.64,-314.96 -337.64,-275.59 337.64,-275.59 337.64,-313.78 632.64,-313.78 632.64,217.72 275.59,217.71 275.59,275 -650.59,275
Mechanical 13:
  lines w7.87: -689.96,276.13 cw(c-651.61,276.13) -651.61,314.49 275.66,314.49 ; -688.9,275.07 -688.9,-276.61 ccw(c-650.54,-276.61) -650.54,-314.96 ; -673.23,218.26 cw(c-634.87,218.26) -634.87,256.61 -343.13,256.61 cw(c-343.13,212.85) -299.37,212.85 -299.37,-313.22 ; -672.76,217.79 -672.76,-314.8 ccw(c-634.4,-314.8) -634.4,-353.15 -337.09,-353.15 ; -650.59,275 -650,275.59 ; -625.59,-313.19 -650.59,-313.19 -650.59,-275.59 ; -336.62,-352.68 ccw(c-336.62,-314.32) -298.27,-314.32 ; 240.51,-314.49 276.61,-314.49 ccw(c276.61,-276.13) 314.96,-276.13 ; 253.78,-313.78 -337.64,-313.78 ; 275.58,-217.72 275.59,-217.73 275.59,-275.59 ; 276.13,314.96 cw(c276.13,276.61) 314.49,276.61 314.49,-275.66 ; 277.72,217.72 337.64,217.72 337.64,-313.78 632.64,-313.78 ; 300.63,218.26 cw(c338.98,218.26) 338.98,256.61 630.72,256.61 cw(c630.72,212.85) 674.49,212.85 674.49,-313.22 ; 301.1,217.79 301.1,-314.8 ccw(c339.46,-314.8) 339.46,-353.15 636.76,-353.15 ; 316.1,256.61 350,256.61 ; 332.06,-275.58 275.58,-275.58 ; 633.86,-315 633.86,217.72 ; 637.24,-352.68 ccw(c637.24,-314.32) 675.59,-314.32 ; -650.59,-275.59 275.59,-275.59 ; -650.59,-275.59 -650.59,275.59 275.59,275.59 275.59,-275.59 ; -633.86,313.78 -337.64,313.78 -633.86,313.78 ; -633.86,313.78 -633.86,313.78 ; -337.64,-313.78 -633.86,-313.78 -633.86,217.72 -337.64,217.72 -337.64,-313.78 ; 275.58,-275.58 275.59,-275.59 ; -633.86,275.59 -633.86,275.59 ; -337.64,275.54 -337.64,275.54
  lines w10: -843.75,-375 -843.75,375 843.75,375 843.75,-375 -843.75,-375
  text ".Designator" at 309.06,70.87 h27.56
  text ".Designator" at 70,140 h27.56
Mechanical 15:
  lines w7.87: 632.64,216.5 632.64,-313.78 337.64,-313.78 ; -650.59,-315 -650.59,-315 ; -650.59,-315 -650.59,275.59 ; -650.59,-315 -337.68,-315 -337.64,-314.96 -337.64,-275.59 ; -650.59,275.59 275.59,275.59 ; -650.59,275.59 -650.59,275.59 ; -337.64,-275.59 -337.64,-275.59 ; -337.64,-275.59 337.64,-275.59 ; 275.59,217.72 275.59,275.59 ; 275.59,217.72 275.59,217.72 ; 275.59,217.72 632.64,217.72 ; 275.59,275.59 275.59,275.59 ; 337.64,-313.78 337.64,-275.59 ; 337.64,-313.78 337.64,-313.78 ; 337.64,-275.59 337.64,-275.59 ; 632.64,217.72 632.64,217.71

## PLATE_MX - Left shift rotated stab - combo [mil]
pads (6):
  round 157.01 on Mech13: ""(-470,-325) ""(470,-325)
  round 120 on Mech13: ""(-470,275) ""(470,275)
  round 39.37 on Mech13: ""(-375,0) ""(0,0)
Top Solder:
  drawing of 2 lines, arcs and shapes, not listed
Bottom Solder:
  drawing of 2 lines, arcs and shapes, not listed
Keep-Out Layer:
  board cut-out: -650.59,-313.79 -337.66,-313.79 -337.66,-275.59 337.62,-275.59 337.62,-313.78 650.59,-313.78 650.59,313.79 337.64,313.78 337.64,275.59 -337.64,275.59 -337.64,313.78 -650.59,313.78
Mechanical 13:
  lines w7.87: -689.96,276.13 cw(c-651.61,276.13) -651.61,314.49 275.66,314.49 ; -688.9,275.07 -688.9,-276.61 ccw(c-650.54,-276.61) -650.54,-314.96 ; -673.23,218.26 cw(c-634.87,218.26) -634.87,256.61 -343.13,256.61 cw(c-343.13,212.85) -299.37,212.85 -299.37,-313.22 ; -672.76,217.79 -672.76,-314.8 ccw(c-634.4,-314.8) -634.4,-353.15 -337.09,-353.15 ; -650.59,275 -650,275.59 ; -625.59,-313.19 -650.59,-313.19 -650.59,-275.59 ; -336.62,-352.68 ccw(c-336.62,-314.32) -298.27,-314.32 ; 240.51,-314.49 276.61,-314.49 ccw(c276.61,-276.13) 314.96,-276.13 ; 253.78,-313.78 -337.64,-313.78 ; 275.58,-217.72 275.59,-217.73 275.59,-275.59 ; 276.13,314.96 cw(c276.13,276.61) 314.49,276.61 314.49,-275.66 ; 277.72,217.72 337.64,217.72 337.64,-313.78 632.64,-313.78 ; 300.63,218.26 cw(c338.98,218.26) 338.98,256.61 630.72,256.61 cw(c630.72,212.85) 674.49,212.85 674.49,-313.22 ; 301.1,217.79 301.1,-314.8 ccw(c339.46,-314.8) 339.46,-353.15 636.76,-353.15 ; 316.1,256.61 350,256.61 ; 332.06,-275.58 275.58,-275.58 ; 633.86,-315 633.86,217.72 ; 637.24,-352.68 ccw(c637.24,-314.32) 675.59,-314.32 ; -650.59,-275.59 275.59,-275.59 ; -650.59,-275.59 -650.59,275.59 275.59,275.59 275.59,-275.59 ; -633.86,313.78 -337.64,313.78 -633.86,313.78 ; -633.86,313.78 -633.86,313.78 ; -337.64,-313.78 -633.86,-313.78 -633.86,217.72 -337.64,217.72 -337.64,-313.78 ; 275.58,-275.58 275.59,-275.59 ; -633.86,275.59 -633.86,275.59 ; -337.64,275.54 -337.64,275.54
  lines w10: -843.75,-375 -843.75,375 843.75,375 843.75,-375 -843.75,-375
  text ".Designator" at 309.06,70.87 h27.56
  text ".Designator" at 70,140 h27.56
Mechanical 15:
  lines w7.87: 285,275.59 -337.64,275.59 -337.64,313.78 -632.64,313.78 -650.59,313.78 -650.59,275.59 ; 337.64,314.96 337.64,275.59 275.59,275.59 ; 337.68,315 650.59,315 650.59,-313.78 632.64,-313.78 337.64,-313.78 ; -650.59,-315 -650.59,-315 ; -650.59,-315 -650.59,275.59 ; -650.59,-315 -337.68,-315 -337.64,-314.96 -337.64,-275.59 ; -650.59,275.59 -650.59,275.59 ; -337.64,-275.59 -337.64,-275.59 ; -337.64,-275.59 337.64,-275.59 ; 275.59,275.59 275.59,275.59 ; 337.64,-313.78 337.64,-275.59 ; 337.64,-313.78 337.64,-313.78 ; 337.64,-275.59 337.64,-275.59

## PLATE_MX - Mod_Center [mm]
pads (10):
  round 1 on Mech13: ""(-2.381,0) ""(-2.381,0) ""(-2.381,0) ""(-2.381,0) ""(0,0) ""(0,0) ""(0,0) ""(0,0) ""(0,0) ""(0,0)
Top Solder:
  region: -10.469,-7.048 -10.472,-7.042 -10.477,-7.03 -10.48,-7.018 -10.482,-7.005 -10.482,-6.999 -10.482,6.999 -10.482,7.102 -10.442,7.305 -10.365,7.496 -10.253,7.669 -10.11,7.818 -9.942,7.937 -9.753,8.021 -9.553,8.068 -9.449,8.073 -9.442,8.079 -9.426,8.09 -9.409,8.097 -9.39,8.1 -9.38,8.1 7.014,8.1 7.12,8.1 7.327,8.059 7.523,7.978 7.699,7.86 7.848,7.711 7.966,7.535 8.047,7.339 8.088,7.132 8.088,7.026 8.088,7.023 8.088,7.017 8.087,7.01 8.086,7.004 8.085,7.001 8.085,-7.014 8.085,-7.12 8.044,-7.327 7.963,-7.523 7.845,-7.699 7.696,-7.848 7.52,-7.966 7.324,-8.047 7.117,-8.088 7.011,-8.088 7.008,-8.088 7.002,-8.088 6.995,-8.087 6.989,-8.086 6.986,-8.085 -9.395,-8.085 -9.499,-8.085 -9.702,-8.046 -9.894,-7.968 -10.067,-7.855 -10.216,-7.712 -10.335,-7.542 -10.419,-7.353 -10.465,-7.151
Bottom Solder:
  region: -10.469,-7.048 -10.472,-7.042 -10.477,-7.03 -10.48,-7.018 -10.482,-7.005 -10.482,-6.999 -10.482,6.999 -10.482,7.102 -10.442,7.305 -10.365,7.496 -10.253,7.669 -10.11,7.818 -9.942,7.937 -9.753,8.021 -9.553,8.068 -9.449,8.073 -9.442,8.079 -9.426,8.09 -9.409,8.097 -9.39,8.1 -9.38,8.1 7.014,8.1 7.12,8.1 7.327,8.059 7.523,7.978 7.699,7.86 7.848,7.711 7.966,7.535 8.047,7.339 8.088,7.132 8.088,7.026 8.088,7.023 8.088,7.017 8.087,7.01 8.086,7.004 8.085,7.001 8.085,-7.014 8.085,-7.12 8.044,-7.327 7.963,-7.523 7.845,-7.699 7.696,-7.848 7.52,-7.966 7.324,-8.047 7.117,-8.088 7.011,-8.088 7.008,-8.088 7.002,-8.088 6.995,-8.087 6.989,-8.086 6.986,-8.085 -9.395,-8.085 -9.499,-8.085 -9.702,-8.046 -9.894,-7.968 -10.067,-7.855 -10.216,-7.712 -10.335,-7.542 -10.419,-7.353 -10.465,-7.151
Keep-Out Layer:
  board cut-out: -9.381,-7 7,-7 7,7 -9.381,7
Mechanical 13:
  lines w0.2: -10.381,-6.999 -10.381,6.999 cw(c-9.407,6.999) -9.407,7.973 ; -10.369,-7.011 ccw(c-9.395,-7.011) -9.395,-7.985 7.008,-7.985 ; -9.38,8 7.014,8 cw(c7.014,7.026) 7.988,7.026 ; 7.011,-7.988 ccw(c7.011,-7.014) 7.985,-7.014 7.985,7.023
  lines w0.254: -9.381,-7 7,-7 7,7 -9.381,7 -9.381,-7
Mechanical 15:
  lines w0.2: -9.381,-7 7,-7 7,7 -9.381,7 -9.381,-7

## Plate_MX - modifier [mm]
pads (4):
  round 1 on Mech13: ""(-2.381,0) ""(-2.381,0) ""(0,0) ""(0,0)
Top Solder:
  region: -10.469,-7.048 -10.472,-7.042 -10.477,-7.03 -10.48,-7.018 -10.482,-7.005 -10.482,-6.999 -10.482,6.999 -10.482,7.102 -10.442,7.305 -10.365,7.496 -10.253,7.669 -10.11,7.818 -9.942,7.937 -9.753,8.021 -9.553,8.068 -9.449,8.073 -9.442,8.079 -9.426,8.09 -9.409,8.097 -9.39,8.1 -9.38,8.1 7.014,8.1 7.12,8.1 7.327,8.059 7.523,7.978 7.699,7.86 7.848,7.711 7.966,7.535 8.047,7.339 8.088,7.132 8.088,7.026 8.088,7.023 8.088,7.017 8.087,7.01 8.086,7.004 8.085,7.001 8.085,-7.014 8.085,-7.12 8.044,-7.327 7.963,-7.523 7.845,-7.699 7.696,-7.848 7.52,-7.966 7.324,-8.047 7.117,-8.088 7.011,-8.088 7.008,-8.088 7.002,-8.088 6.995,-8.087 6.989,-8.086 6.986,-8.085 -9.395,-8.085 -9.499,-8.085 -9.702,-8.046 -9.894,-7.968 -10.067,-7.855 -10.216,-7.712 -10.335,-7.542 -10.419,-7.353 -10.465,-7.151
Bottom Solder:
  region: -10.469,-7.048 -10.472,-7.042 -10.477,-7.03 -10.48,-7.018 -10.482,-7.005 -10.482,-6.999 -10.482,6.999 -10.482,7.102 -10.442,7.305 -10.365,7.496 -10.253,7.669 -10.11,7.818 -9.942,7.937 -9.753,8.021 -9.553,8.068 -9.449,8.073 -9.442,8.079 -9.426,8.09 -9.409,8.097 -9.39,8.1 -9.38,8.1 7.014,8.1 7.12,8.1 7.327,8.059 7.523,7.978 7.699,7.86 7.848,7.711 7.966,7.535 8.047,7.339 8.088,7.132 8.088,7.026 8.088,7.023 8.088,7.017 8.087,7.01 8.086,7.004 8.085,7.001 8.085,-7.014 8.085,-7.12 8.044,-7.327 7.963,-7.523 7.845,-7.699 7.696,-7.848 7.52,-7.966 7.324,-8.047 7.117,-8.088 7.011,-8.088 7.008,-8.088 7.002,-8.088 6.995,-8.087 6.989,-8.086 6.986,-8.085 -9.395,-8.085 -9.499,-8.085 -9.702,-8.046 -9.894,-7.968 -10.067,-7.855 -10.216,-7.712 -10.335,-7.542 -10.419,-7.353 -10.465,-7.151
Keep-Out Layer:
  board cut-out: -9.381,-7 7,-7 7,7 -9.381,7
Mechanical 13:
  lines w0.2: -10.381,-6.999 -10.381,6.999 cw(c-9.407,6.999) -9.407,7.973 ; -10.369,-7.011 ccw(c-9.395,-7.011) -9.395,-7.985 7.008,-7.985 ; -9.38,8 7.014,8 cw(c7.014,7.026) 7.988,7.026 ; 7.011,-7.988 ccw(c7.011,-7.014) 7.985,-7.014 7.985,7.023
  lines w0.254: -14.287,-9.525 -14.287,9.525 14.287,9.525 14.287,-9.525 -14.287,-9.525 ; -9.381,-7 -9.381,7 7,7 7,-7 -9.381,-7
Mechanical 15:
  lines w0.2: -9.381,-7 7,-7 7,7 -9.381,7 -9.381,-7

## PLATE_MX - right shift [mil]
pads (6):
  round 157.01 on Mech13: ""(-470,-325) ""(470,-325)
  round 120 on Mech13: ""(-470,275) ""(470,275)
  round 39.37 on Mech13: ""(-375,0) ""(0,0)
Top Solder:
  region: -634.4,-357.1 -337.09,-357.1 -336.84,-357.1 -336.35,-357.04 -335.86,-356.91 -335.4,-356.73 -335.18,-356.6 -331.36,-356.47 -323.91,-354.85 -316.86,-351.92 -310.45,-347.78 -304.89,-342.56 -300.35,-336.42 -296.98,-329.58 -294.89,-322.24 -294.52,-318.44 276.61,-318.44 279.37,-318.44 284.84,-317.72 290.18,-316.3 295.29,-314.19 297.68,-312.82 297.55,-313.04 297.35,-313.52 297.22,-314.02 297.15,-314.54 297.15,-314.8 297.15,-318.96 298.78,-327.14 301.96,-334.83 306.59,-341.76 312.49,-347.66 319.42,-352.29 327.12,-355.48 335.29,-357.1 339.46,-357.1 636.76,-357.1 637.01,-357.1 637.51,-357.04 638,-356.91 638.46,-356.73 638.68,-356.6 642.76,-356.47 650.7,-354.64 658.15,-351.33 664.83,-346.65 670.49,-340.79 674.93,-333.96 677.99,-326.4 679.54,-318.4 679.54,-314.32 679.54,-313.94 679.4,-313.2 679.11,-312.49 678.7,-311.86 678.44,-311.58 678.44,265 678.44,265.31 678.34,265.93 678.14,266.53 677.86,267.09 677.67,267.34 677.86,267.6 678.14,268.15 678.34,268.75 678.44,269.37 678.44,269.69 678.44,274.21 676.74,283.1 673.4,291.51 668.53,299.14 662.32,305.73 654.98,311.02 646.78,314.85 638,317.06 633.48,317.32 633.21,317.59 632.57,318.01 631.86,318.29 631.11,318.44 630.72,318.44 -651.61,318.44 -655.77,318.44 -663.95,316.81 -671.65,313.63 -678.58,309 -684.47,303.1 -689.1,296.17 -692.29,288.47 -693.91,280.3 -693.91,276.13 -693.91,275.76 -693.77,275.03 -693.5,274.34 -693.1,273.71 -692.85,273.44 -692.85,-276.61 -692.85,-281.41 -690.7,-290.77 -686.5,-299.4 -680.48,-306.88 -676.71,-309.85 -676.71,-314.8 -676.71,-318.96 -675.08,-327.14 -671.89,-334.83 -667.26,-341.76 -661.37,-347.66 -654.44,-352.29 -646.74,-355.48 -638.57,-357.1
Bottom Solder:
  region: -634.4,-357.1 -337.09,-357.1 -336.84,-357.1 -336.35,-357.04 -335.86,-356.91 -335.4,-356.73 -335.18,-356.6 -331.36,-356.47 -323.91,-354.85 -316.86,-351.92 -310.45,-347.78 -304.89,-342.56 -300.35,-336.42 -296.98,-329.58 -294.89,-322.24 -294.52,-318.44 276.61,-318.44 279.37,-318.44 284.84,-317.72 290.18,-316.3 295.29,-314.19 297.68,-312.82 297.55,-313.04 297.35,-313.52 297.22,-314.02 297.15,-314.54 297.15,-314.8 297.15,-318.96 298.78,-327.14 301.96,-334.83 306.59,-341.76 312.49,-347.66 319.42,-352.29 327.12,-355.48 335.29,-357.1 339.46,-357.1 636.76,-357.1 637.01,-357.1 637.51,-357.04 638,-356.91 638.46,-356.73 638.68,-356.6 642.76,-356.47 650.7,-354.64 658.15,-351.33 664.83,-346.65 670.49,-340.79 674.93,-333.96 677.99,-326.4 679.54,-318.4 679.54,-314.32 679.54,-313.94 679.4,-313.2 679.11,-312.49 678.7,-311.86 678.44,-311.58 678.44,265 678.44,265.31 678.34,265.93 678.14,266.53 677.86,267.09 677.67,267.34 677.86,267.6 678.14,268.15 678.34,268.75 678.44,269.37 678.44,269.69 678.44,274.21 676.74,283.1 673.4,291.51 668.53,299.14 662.32,305.73 654.98,311.02 646.78,314.85 638,317.06 633.48,317.32 633.21,317.59 632.57,318.01 631.86,318.29 631.11,318.44 630.72,318.44 -651.61,318.44 -655.77,318.44 -663.95,316.81 -671.65,313.63 -678.58,309 -684.47,303.1 -689.1,296.17 -692.29,288.47 -693.91,280.3 -693.91,276.13 -693.91,275.76 -693.77,275.03 -693.5,274.34 -693.1,273.71 -692.85,273.44 -692.85,-276.61 -692.85,-281.41 -690.7,-290.77 -686.5,-299.4 -680.48,-306.88 -676.71,-309.85 -676.71,-314.8 -676.71,-318.96 -675.08,-327.14 -671.89,-334.83 -667.26,-341.76 -661.37,-347.66 -654.44,-352.29 -646.74,-355.48 -638.57,-357.1
Keep-Out Layer:
  board cut-out: -633.86,-313.78 -633.86,-275.59 -650.59,-275.59 -650.59,275.59 633.86,275.59 633.86,-313.78 337.05,-313.78 337.05,-275.59 -337.64,-275.59 -337.64,-313.78
Mechanical 13:
  lines w7.87: -689.96,276.13 cw(c-651.61,276.13) -651.61,314.49 630.72,314.49 ; -688.9,275.07 -688.9,-276.61 ccw(c-650.54,-276.61) -650.54,-314.96 ; -673.23,218.26 cw(c-634.87,218.26) -634.87,256.61 -343.13,256.61 cw(c-343.13,212.85) -299.37,212.85 -299.37,-313.22 ; -672.76,217.79 -672.76,-314.8 ccw(c-634.4,-314.8) -634.4,-353.15 -337.09,-353.15 ; -650.07,-314.49 276.61,-314.49 ccw(c276.61,-276.13) 314.96,-276.13 ; -336.62,-352.68 ccw(c-336.62,-314.32) -298.27,-314.32 ; 260,275.59 633.86,275.59 633.86,217.72 ; 276.13,314.96 cw(c276.13,276.61) 314.49,276.61 314.49,-275.66 ; 278.31,217.72 337.64,217.72 ; 300.63,218.26 cw(c338.98,218.26) 338.98,256.61 630.72,256.61 cw(c630.72,212.85) 674.49,212.85 ; 301.1,217.79 301.1,-314.8 ccw(c339.46,-314.8) 339.46,-353.15 636.76,-353.15 ; 337.05,-275.59 275.59,-275.59 ; 630.72,313.45 cw(c630.72,269.69) 674.49,269.69 ; 637.24,-352.68 ccw(c637.24,-314.32) 675.59,-314.32 ; 674.49,-313.22 674.49,265 ; -633.86,-313.78 -337.64,-313.78 ; -633.86,-313.78 -633.86,217.72 -337.64,217.72 -337.64,-313.78 ; -633.86,-313.78 -337.64,-313.78 ; -633.86,-313.78 -337.64,-313.78 ; 275.59,-275.59 -650.59,-275.59 -650.59,275.59 275.59,275.59 275.59,-275.59 ; 337.64,217.72 337.64,-313.78 633.86,-313.78 633.86,217.72 ; 337.64,217.72 633.86,217.72 ; -1031.25,-375 1031.25,-375 1031.25,375 -1031.25,375 -1031.25,-375
Mechanical 15:
  lines w7.87: 633.86,-313.78 633.86,275.59 -650.59,275.59 -650.59,-275.59 -633.86,-275.59 -633.86,-313.78 -337.64,-313.78 -337.64,-275.59 337.05,-275.59 337.05,-313.78 633.86,-313.78 ; 633.86,-313.78 633.86,-313.78

## PLATE_MX - Space_V2 [mm]
pads (18):
  round 3.048 on Mech13: ""(-61.91,-6.985) ""(-57.15,-6.985) ""(38.09,-6.985) ""(57.15,-6.985)
  round 3.988 on Mech13: ""(-61.91,8.255) ""(-57.15,8.255) ""(38.09,8.255) ""(57.15,8.255)
  round 1 on Mech13: ""(-16.676,0) ""(-16.676,0) ""(-16.676,0) ""(-16.676,0) ""(-11.596,0) ""(-11.596,0) ""(0,0) ""(0,0) ""(0,0) ""(0,0)
Top Solder:
  drawing of 4 lines, arcs and shapes, not listed
Bottom Solder:
  drawing of 4 lines, arcs and shapes, not listed
Keep-Out Layer:
  board cut-out: 61.312,7.97 53.788,7.97 53.788,-5.53 61.312,-5.53
  board cut-out: 42.252,7.97 34.728,7.97 34.728,-5.53 42.252,-5.53
  board cut-out: -53.788,7.97 -66.072,7.97 -66.072,-5.53 -53.788,-5.53
  board cut-out: -23.676,-7 7,-7 7,7 -23.676,7
Mechanical 13:
  lines w0.2: -67.132,7.984 cw(c-66.158,7.984) -66.158,8.958 ; -67.104,7.956 -67.104,-5.406 ccw(c-65.992,-5.406) -65.992,-6.518 -53.822,-6.518 ccw(c-53.822,-5.544) -52.848,-5.544 ; -66.158,8.97 -53.834,8.97 cw(c-53.834,7.996) -52.86,7.996 -52.86,-5.532 ; -62.372,7.984 cw(c-61.398,7.984) -61.398,8.958 ; -61.312,-5.53 -53.788,-5.53 -53.788,7.97 -61.312,7.97 ; -58.548,-5.53 -66.072,-5.53 -66.072,7.97 -58.548,7.97 ; -24.676,-7.014 -24.676,7.014 cw(c-23.702,7.014) -23.702,7.988 ; -24.664,-7.026 ccw(c-23.69,-7.026) -23.69,-8 7.026,-8 ; -23.69,8 7.014,8 cw(c7.014,7.026) 7.988,7.026 ; 7.026,-7.988 ccw(c7.026,-7.014) 8,-7.014 8,7.014 ; 33.728,7.984 cw(c34.702,7.984) 34.702,8.958 ; 33.756,7.956 33.756,-5.406 ccw(c34.868,-5.406) 34.868,-6.518 42.278,-6.518 ccw(c42.278,-5.544) 43.252,-5.544 ; 34.714,8.97 42.266,8.97 cw(c42.266,7.996) 43.24,7.996 43.24,-5.532 ; 52.788,7.984 cw(c53.762,7.984) 53.762,8.958 ; 52.816,7.956 52.816,-5.406 ccw(c53.928,-5.406) 53.928,-6.518 61.338,-6.518 ccw(c61.338,-5.544) 62.312,-5.544 ; 53.774,8.97 61.326,8.97 cw(c61.326,7.996) 62.3,7.996 62.3,-5.532 ; 34.728,-5.53 34.728,7.97 42.252,7.97 42.252,-5.53 34.728,-5.53 ; 53.788,-5.53 53.788,7.97 61.312,7.97 61.312,-5.53 53.788,-5.53
  lines w0.254: 47.621,-9.525 47.621,9.525 ; -23.676,-7 7,-7 ; -23.676,-7 -23.676,7 ; -23.676,-7 -23.676,7 ; -23.676,7 7,7 ; 7,-7 7,7 ; 7,-7 7,7 ; -66.675,-9.525 66.675,-9.525 66.675,9.525 -66.675,9.525 -66.675,-9.525
Mechanical 15:
  lines w0.2: -53.788,-5.53 -53.788,7.97 -66.072,7.97 -66.072,-5.53 -53.857,-5.53 -53.788,-5.461 ; -23.676,-7 -23.676,7 7,7 7,-7 -23.676,-7 ; 34.728,-5.53 34.728,7.97 42.195,7.97 42.252,7.913 42.252,-5.53 34.728,-5.53 ; 53.788,-5.53 53.788,7.97 61.312,7.97 61.312,-5.53 53.788,-5.53

## PLATE_MX- R split space [mm]
pads (8):
  round 3.988 on Mech13: ""(-11.938,-8.255) ""(11.938,-8.255)
  round 3.048 on Mech13: ""(-11.938,6.985) ""(11.938,6.985)
  round 1 on Mech13: ""(0,0) ""(0,0) ""(0,0) ""(0,0)
Top Solder:
  drawing of 3 lines, arcs and shapes, not listed
Bottom Solder:
  drawing of 3 lines, arcs and shapes, not listed
Keep-Out Layer:
  board cut-out: -16.1,-7.97 -8.576,-7.97 -8.576,-6.985 8.576,-6.985 8.576,-7.97 16.129,-7.97 16.129,5.63 7,5.63 7,7 -7,7 -7,5.53 -16.1,5.53
Mechanical 13:
  lines w0.2: -17.1,5.544 cw(c-16.126,5.544) -16.126,6.518 -8.716,6.518 cw(c-8.716,5.406) -7.604,5.406 -7.604,-7.956 ; -17.088,5.532 -17.088,-7.996 ccw(c-16.114,-7.996) -16.114,-8.97 -8.562,-8.97 ; -8.55,-8.958 ccw(c-8.55,-7.984) -7.576,-7.984 ; -8,-7.014 -8,7.014 cw(c-7.026,7.014) -7.026,7.988 ; -7.988,-7.026 ccw(c-7.014,-7.026) -7.014,-8 7.014,-8 ; -7.014,8 7.014,8 cw(c7.014,7.026) 7.988,7.026 ; 7.026,-7.988 ccw(c7.026,-7.014) 8,-7.014 8,7.014 ; 7.636,5.544 cw(c8.61,5.544) 8.61,6.518 16.02,6.518 cw(c16.02,5.406) 17.132,5.406 17.132,-7.956 ; 7.648,5.532 7.648,-7.996 ccw(c8.622,-7.996) 8.622,-8.97 16.174,-8.97 ; 16.186,-8.958 ccw(c16.186,-7.984) 17.16,-7.984 ; -16.1,-7.97 -16.1,5.53 -8.576,5.53 -8.576,-7.97 -16.1,-7.97 ; 8.576,-7.97 8.576,5.53 16.1,5.53 16.1,-7.97 8.576,-7.97
  lines w0.254: -26.194,-9.525 -26.194,9.525 26.194,9.525 26.194,-9.525 -26.194,-9.525 ; -7,-7 -7,7 7,7 7,-7 -7,-7
  text ".Designator" at 7.675,-3.725 h0.7
Mechanical 15:
  lines w0.2: -16.1,-7.97 -16.1,5.53 ; -16.1,-7.97 -16.1,-7.97 ; -16.1,-7.97 -8.576,-7.97 ; -16.1,5.53 -16.1,5.53 ; -16.1,5.53 -7,5.53 ; -8.576,-7.97 -8.576,-7.97 ; -8.576,-7.97 -8.576,-6.985 8.576,-6.985 ; -7,5.53 -7,7 7,7 ; -7,5.53 -7,5.53 ; 7,5.63 16.129,5.63 ; 7,5.63 7,5.63 ; 7,5.63 7,7 ; 7,7 7,7 ; 8.576,-7.97 8.576,-6.985 ; 8.576,-7.97 8.576,-7.97 ; 8.576,-7.97 16.129,-7.97 16.129,-7.97 16.129,5.63 ; 8.576,-6.985 8.576,-6.985 ; 16.129,5.63 16.129,5.63

## PLATE_MX_1.5U [mm]
pads (2):
  round 1 on Mech13: ""(0,0) ""(0,0)
Top Layer:
  pour cut-out: -7,-7 7,-7 7,7 -7,7
Top Solder:
  region: -7.988,-7.026 -7.988,-7.122 -7.951,-7.31 -7.877,-7.487 -7.771,-7.647 -7.635,-7.783 -7.475,-7.889 -7.298,-7.963 -7.11,-8 -7.014,-8 7.014,-8 7.026,-7.988 7.122,-7.988 7.31,-7.951 7.487,-7.877 7.647,-7.771 7.783,-7.635 7.889,-7.475 7.963,-7.298 8,-7.11 8,-7.014 8,7.014 7.988,7.026 7.988,7.122 7.951,7.31 7.877,7.487 7.771,7.647 7.635,7.783 7.475,7.889 7.298,7.963 7.11,8 7.014,8 -7.014,8 -7.026,7.988 -7.122,7.988 -7.31,7.951 -7.487,7.877 -7.647,7.771 -7.783,7.635 -7.889,7.475 -7.963,7.298 -8,7.11 -8,7.014
Bottom Solder:
  region: -7.988,-7.026 -7.988,-7.122 -7.951,-7.31 -7.877,-7.487 -7.771,-7.647 -7.635,-7.783 -7.475,-7.889 -7.298,-7.963 -7.11,-8 -7.014,-8 7.014,-8 7.026,-7.988 7.122,-7.988 7.31,-7.951 7.487,-7.877 7.647,-7.771 7.783,-7.635 7.889,-7.475 7.963,-7.298 8,-7.11 8,-7.014 8,7.014 7.988,7.026 7.988,7.122 7.951,7.31 7.877,7.487 7.771,7.647 7.635,7.783 7.475,7.889 7.298,7.963 7.11,8 7.014,8 -7.014,8 -7.026,7.988 -7.122,7.988 -7.31,7.951 -7.487,7.877 -7.647,7.771 -7.783,7.635 -7.889,7.475 -7.963,7.298 -8,7.11 -8,7.014
Keep-Out Layer:
  board cut-out: -7,-7 7,-7 7,7 -7,7
Mechanical 13:
  lines w0.2: -8,-7.014 -8,7.014 cw(c-7.026,7.014) -7.026,7.988 ; -7.988,-7.026 ccw(c-7.014,-7.026) -7.014,-8 7.014,-8 ; -7.014,8 7.014,8 cw(c7.014,7.026) 7.988,7.026 ; 7.026,-7.988 ccw(c7.026,-7.014) 8,-7.014 8,7.014
  lines w0.254: -7,-7 -7,7 7,7 7,-7 -7,-7
Mechanical 15:
  lines w0.254: -7,-7 7,-7 7,7 -7,7 -7,-7